# Altium schematic symbol library buf_non_invert_SN74LV1T34DCKR.SchLib: 2 symbols
Pins are listed as number, name and electrical type; pins without a type are passive.

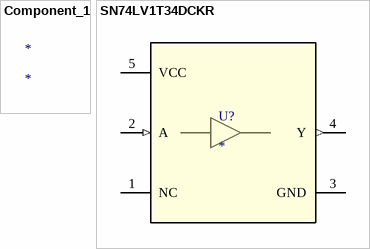
[diagram p0: symbols Component_1 to SN74LV1T34DCKR]

## Component_1
designator *

## SN74LV1T34DCKR
designator U?
No Description Available; Mfr_Name: Texas Instruments; PartNumber: SN74LV1T34DCK; CompType: IC; TYPE: TYPE; RefDes: RefDes; SymbolVerison: 2014-09-28; PackageReference: DCK0005A; MountType: SMT; RoHS: Y; Manufacturer: Texas Instruments
footprint DCK0005A_N
pins: 1 NC, 2 A (in), 3 GND (power), 4 Y (out), 5 VCC (power)